# Altium schematic symbol library Motor Dr_L293DD_1.Schlib: 1 symbol
Pins are listed as number, name and electrical type; pins without a type are passive.

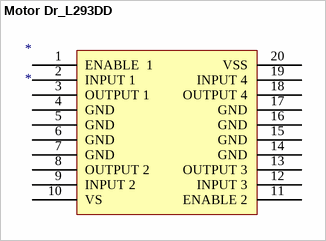
[diagram p0: symbol Motor Dr_L293DD]

## Motor Dr_L293DD
designator *
footprint SOIC127P600-8N
pins: 1 ENABLE  1, 2 INPUT 1, 3 OUTPUT 1, 4 GND, 5 GND, 6 GND, 7 GND, 8 OUTPUT 2, 9 INPUT 2, 10 VS, 11 ENABLE 2, 12 INPUT 3, 13 OUTPUT 3, 14 GND, 15 GND, 16 GND, 17 GND, 18 OUTPUT 4, 19 INPUT 4, 20 VSS